# EAGLE library part DRV2605YZFR (library DRV2605YZFR-TI)
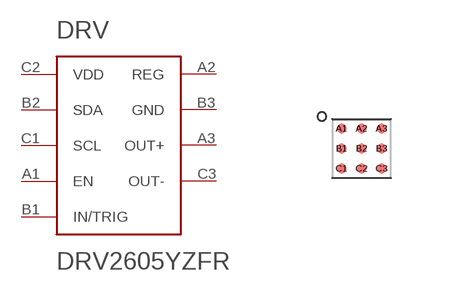
[diagram p0: symbol with the pads of DSBGA(YZF); footprint DSBGA(YZF)]

Designator prefix DRV

## DRV2605YZFR  [DSBGA(YZF)]
A1  EN  in
A2  REG  pas
A3  OUT+  pas
B1  IN/TRIG  in
B2  SDA  in
B3  GND  pas
C1  SCL  in
C2  VDD  pas
C3  OUT-  pas

## Footprint DSBGA(YZF) (pad centres in mm)
smd 0.254 x 0.254: A1 -0.5,0.5; A2 0,0.5; A3 0.5,0.5; B1 -0.5,0; B2 0,0; B3 0.5,0; C1 -0.5,-0.5; C2 0,-0.5; C3 0.5,-0.5